# Altium schematic symbol library Schlib_lm12to5.SchLib: 5 symbols
Pins are listed as number, name and electrical type; pins without a type are passive.

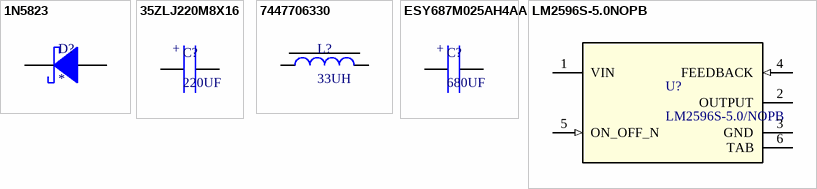
[diagram p0: symbols 1N5823 to LM2596S-5.0NOPB]

## 1N5823
designator D?
DIODE SCHOTTKY 20V 5A AXIAL
footprint DIODE_1N5823_SSM
pins: 1 A, 2 K

## 35ZLJ220M8X16
designator C?, comment 220UF
CAP ALUM 220UF 20% 35V RADIAL TH
footprint 35ZLJ220M8X16
pins: 1 +, 2

## 7447706330
designator L?, comment 33UH
FIXED IND 33UH 3A 60 MOHM SMD
footprint 7447706330 (SMT Shielded Power Inductor, 2-leads, body 12x12mm)
pins: 1, 2

## ESY687M025AH4AA
designator C?, comment 680UF
CAP ALUM 680UF 20% 25V RADIAL TH
footprint ESY687M025AH4AA (CAP ALUM 680UF 20% 25V RADIAL TH)
pins: 1 +, 2

## LM2596S-5.0NOPB
designator U?, comment LM2596S-5.0/NOPB
SIMPLE SWITCHER&reg; 4.5V to 40V, 3A Low Component Count Step-Down Regulator 5-DDPAK/TO-263; Manufacturer_Name: Texas Instruments; PartNumber: LM2596SX-ADJ/NOPB; Alternate_PartNumber: LM2596S-ADJ/NOPB; CompType: IC; TYPE: TYPE; RefDes: RefDes; Copyright: Copyright (C) 2025 Ultra Librarian. All rights reserved.; Manufacturer_Part_Number: LM2596S-5.0/NOPB; PackageReference: KTT0005B; MountType: SMT; RoHS: Y; Manufacturer: Texas Instruments
footprint LM2596
pins: 1 VIN (power), 2 OUTPUT (power), 3 GND (power), 4 FEEDBACK (in), 5 ON_OFF_N (in), 6 TAB (power)